# Altium schematic symbol library 飞思卡尔元件库.SchLib: 5 symbols
Pins are listed as number, name and electrical type; pins without a type are passive.

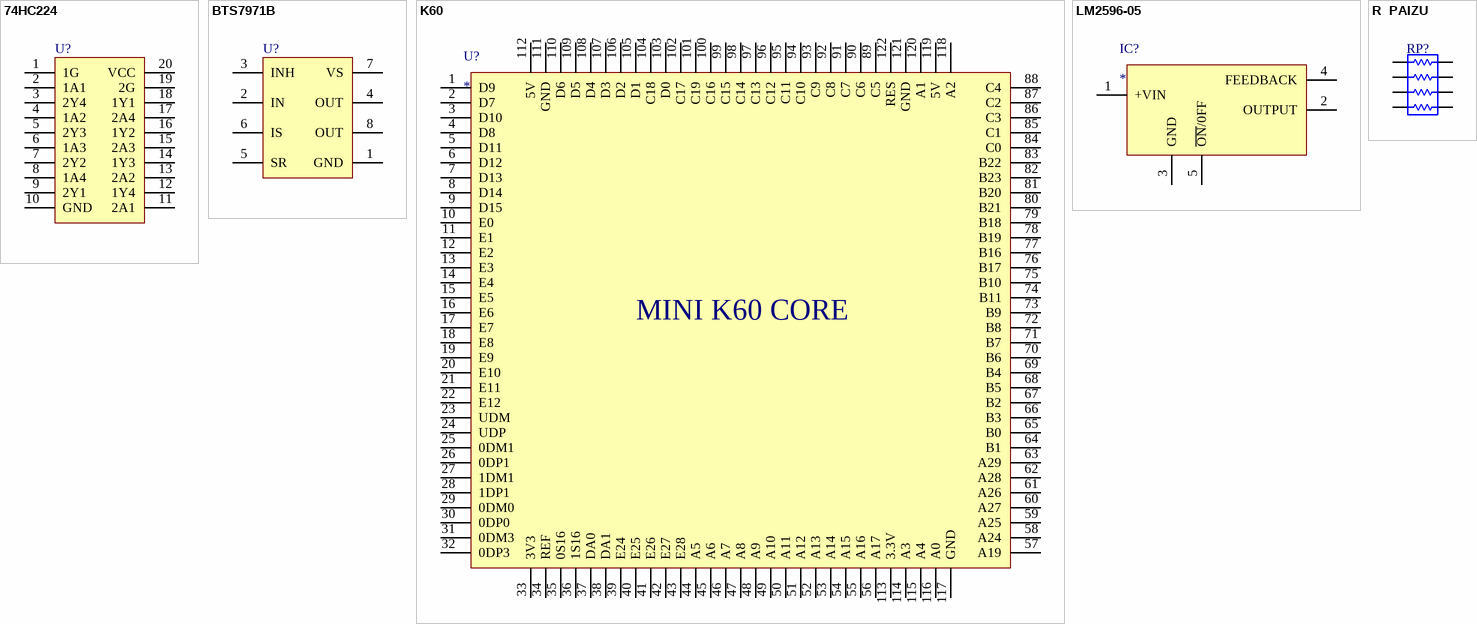
[diagram p0: symbols 74HC224 to R  PAIZU]

## 74HC224
designator U?
footprint SOT-20
pins: 1 1G, 2 1A1, 3 2Y4, 4 1A2, 5 2Y3, 6 1A3, 7 2Y2, 8 1A4, 9 2Y1, 10 GND, 11 2A1, 12 1Y4, 13 2A2, 14 1Y3, 15 2A3, 16 1Y2, 17 2A4, 18 1Y1, 19 2G, 20 VCC

## BTS7971B
designator U?
footprint TO127P1615X238-8N (Footprint not found)
footprint TO-263-7
pins: 1 GND, 2 IN, 3 INH, 4 OUT, 5 SR, 6 IS, 7 VS, 8 OUT

## K60
designator U?
footprint K60-MK
pins: 1 D9, 2 D7, 3 D10, 4 D8, 5 D11, 6 D12, 7 D13, 8 D14, 9 D15, 10 E0, 11 E1, 12 E2, 13 E3, 14 E4, 15 E5, 16 E6, 17 E7, 18 E8, 19 E9, 20 E10, 21 E11, 22 E12, 23 UDM, 24 UDP, 25 0DM1, 26 0DP1, 27 1DM1, 28 1DP1, 29 0DM0, 30 0DP0, 31 0DM3, 32 0DP3, 33 3V3, 34 REF, 35 0S16, 36 1S16, 37 DA0, 38 DA1, 39 E24, 40 E25, 41 E26, 42 E27, 43 E28, 44 A5, 45 A6, 46 A7, 47 A8, 48 A9, 49 A10, 50 A11, 51 A12, 52 A13, 53 A14, 54 A15, 55 A16, 56 A17, 57 A19, 58 A24, 59 A25, 60 A27, 61 A26, 62 A28, 63 A29, 64 B1, 65 B0, 66 B3, 67 B2, 68 B5, 69 B4, 70 B6, 71 B7, 72 B8, 73 B9, 74 B11, 75 B10, 76 B17, 77 B16, 78 B19, 79 B18, 80 B21, 81 B20, 82 B23, 83 B22, 84 C0, 85 C1, 86 C3, 87 C2, 88 C4, 89 C5, 90 C6, 91 C7, 92 C8, 93 C9, 94 C10, 95 C11, 96 C12, 97 C13, 98 C14, 99 C15, 100 C16, 101 C19, 102 C17, 103 D0, 104 C18, 105 D1, 106 D2, 107 D3, 108 D4, 109 D5, 110 D6, 111 GND, 112 5V, 113 3.3V, 114 A3, 115 A4, 116 A0, 117 GND, 118 A2, 119 5V, 120 A1, 121 GND, 122 RES
text: MINI K60 CORE

## LM2596-05
designator IC?
pins: 1 +VIN, 2 OUTPUT, 3 GND, 4 FEEDBACK, 5 ~{ON}/0FF

## R  PAIZU
designator RP?
Published: 8-Jun-2000; LatestRevisionDate: 17-Jul-2002; LatestRevisionNote: Re-released for DXP Platform.; PackageReference: AXIAL-0.3; Publisher: Altium Limited
footprint AXIAL-0.3 (Axial Device, Thru-Hole; 2 Leads; 0.3 in Pin Spacing)
simulation model RESISTOR (Resistor)
signal-integrity model Res
footprint 8P4R-0805
pins: 1, 2, 3, 4, 5, 6, 7, 8